# Altium footprint library CAPAE830X1050N.PcbLib: 1 footprints
Each footprint in its own frame and in the unit in brackets; x right, y up, seen from the top. Pads: shape width x height; smd on the part's side, far side on the other; paste and mask are expansions set on the pad; w line width, h text height; cw(c..) or ccw(c..) is an arc to the next point about the centre after c.
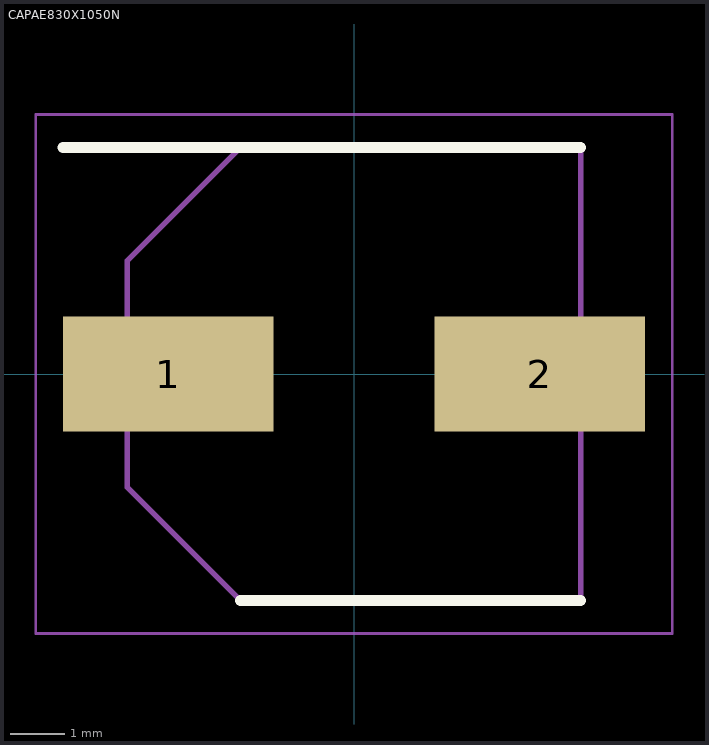
[diagram p0: the footprint, top view; thin cyan lines are the x and y axes]

## CAPAE830X1050N [mm]
pads (2):
  rect 3.85x2.1 smd: 1(-3.4,0) 2(3.4,0)
Top Overlay:
  lines w0.2: -5.325,4.15 4.15,4.15 ; -2.075,-4.15 4.15,-4.15
Mechanical 15:
  lines w0.1: -4.15,-2.075 -4.15,2.075 -2.075,4.15 4.15,4.15 4.15,-4.15 -2.075,-4.15 -4.15,-2.075
Mechanical 20:
  lines w0.05: -5.825,-4.75 5.825,-4.75 5.825,4.75 -5.825,4.75 -5.825,-4.75
3D body "EMZL250ARA471MHA0G.stp": height 5.8, standoff -4.65, extent -10,-3.376 10,3.376